# Altium integrated library TI_Logic_Flip-Flop,Latch,Register.IntLib: 2598 symbols (part 39 of 122)
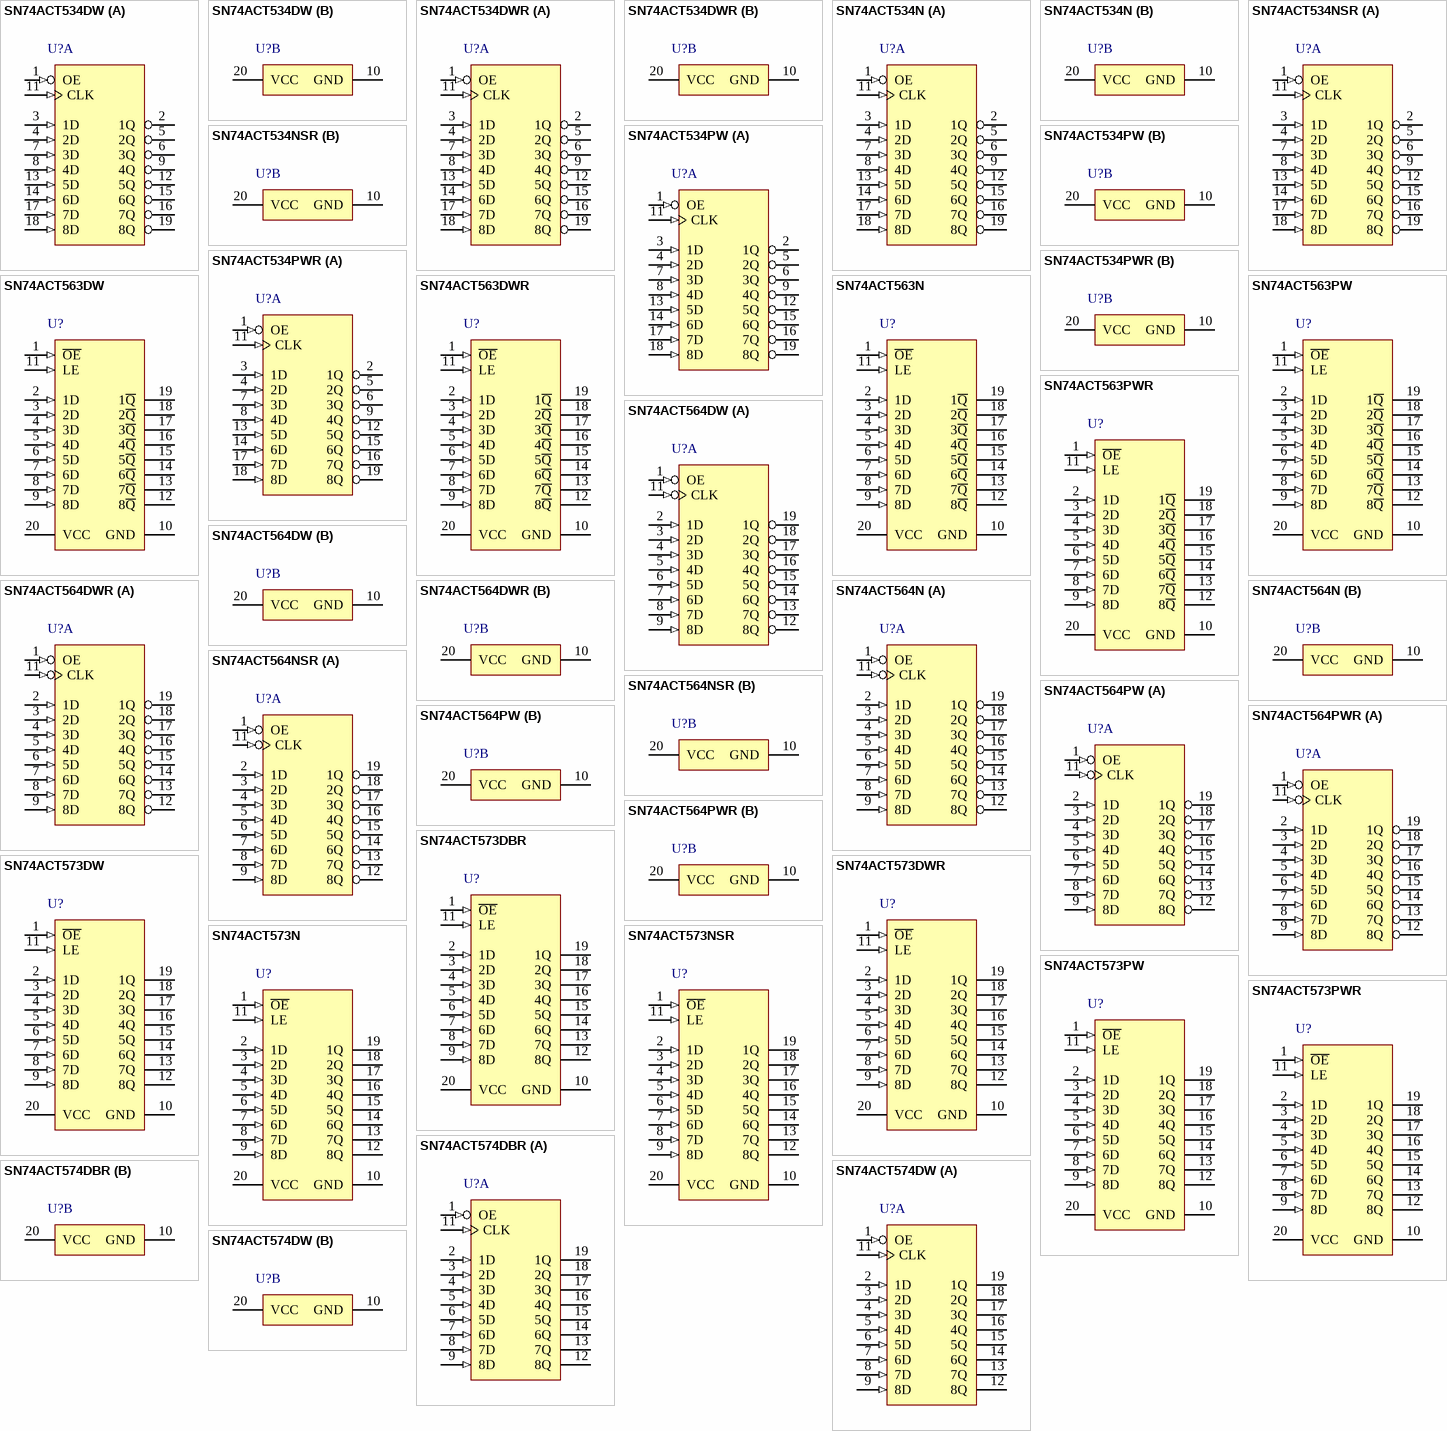
[diagram p177: symbols SN74ACT534DW to SN74ACT574DW]

## SN74ACT564NSR
designator U?
Octal D-Type Edge-Triggered Flip-Flops With 3-State Outputs, NS0020A, LARGE T&R; Generic Part Number: SN74ACT564; Manufacturer: Texas Instruments; PartNumber: SN74ACT564NSR; VCC(Min)(V): 4.5; VCC(Max)(V): 5.5; Output Type: CMOS; ICC @ Nom Voltage(Max)(mA): 0.04; Input Type: TTL; Bits(#): 8; F @ Nom Voltage(Max)(Mhz): 90; Rating: Catalog; Technology Family: ACT; Voltage(Nom)(V): 5; Schmitt Trigger: No; Output Drive (IOL/IOH)(Max)(mA): 24/-24; Output Logic: Inverted; 3-State Output: Yes; tpd @ Nom Voltage(Max)(ns): 11.5; DatasheetVersion: SCAS549B; PackageReference: NS0020A; Supplier 1: Digi-Key; Supplier Part Number 1: 296-31730-2-ND; Supplier 2: Digi-Key; Supplier Part Number 2: 296-31730-1-ND; Supplier 3: Digi-Key; Supplier Part Number 3: 296-31730-6-ND; Supplier 4: Mouser; Supplier Part Number 4: 595-SN74ACT564NSR; Operating Temperature Range(C): -40 to 85; ComponentLink1Description: Manufacturer URL; ComponentLink1URL: http://www.ti.com/; ComponentLink2Description: Datasheet; ComponentLink2URL: http://www.ti.com/lit/ds/symlink/sn74act564.pdf; ComponentLink3Description: Package Specification; ComponentLink3URL: http://www.ti.com/lit/ml/msop002a/msop002a.pdf
footprint NS0020A_N (SOIC,20-Leads,Body 12.9x5.6mm,Pitch 1.27mm,IPC Medium Density)
footprint NS0020A_M (SOIC,20-Leads,Body 12.9x5.6mm,Pitch 1.27mm,IPC Low Density)
footprint NS0020A_L (SOIC,20-Leads,Body 12.9x5.6mm,Pitch 1.27mm,IPC High Density)
part A pins: 1 OE (in), 2 1D (in), 3 2D (in), 4 3D (in), 5 4D (in), 6 5D (in), 7 6D (in), 8 7D (in), 9 8D (in), 11 CLK (in), 12 8Q (hiz), 13 7Q (hiz), 14 6Q (hiz), 15 5Q (hiz), 16 4Q (hiz), 17 3Q (hiz), 18 2Q (hiz), 19 1Q (hiz)
part B pins: 10 GND (power), 20 VCC (power)

## SN74ACT564PW
designator U?
Octal D-Type Edge-Triggered Flip-Flops With 3-State Outputs, PW0020A, TUBE; Generic Part Number: SN74ACT564; Manufacturer: Texas Instruments; PartNumber: SN74ACT564PW; VCC(Min)(V): 4.5; VCC(Max)(V): 5.5; Output Type: CMOS; ICC @ Nom Voltage(Max)(mA): 0.04; Input Type: TTL; Bits(#): 8; F @ Nom Voltage(Max)(Mhz): 90; Rating: Catalog; Technology Family: ACT; Voltage(Nom)(V): 5; Schmitt Trigger: No; Output Drive (IOL/IOH)(Max)(mA): 24/-24; Output Logic: Inverted; 3-State Output: Yes; tpd @ Nom Voltage(Max)(ns): 11.5; DatasheetVersion: SCAS549B; PackageReference: PW0020A; Supplier 1: Digi-Key; Supplier Part Number 1: SN74ACT564PW-ND; Supplier 2: Farnell; Supplier Part Number 2: 1749920; Supplier 3: Mouser; Supplier Part Number 3: 595-SN74ACT564PW; Operating Temperature Range(C): -40 to 85; Code_JEDEC: MO-153; ComponentLink1Description: Manufacturer URL; ComponentLink1URL: http://www.ti.com/; ComponentLink2Description: Datasheet; ComponentLink2URL: http://www.ti.com/lit/ds/symlink/sn74act564.pdf; ComponentLink3Description: Package Specification; ComponentLink3URL: http://www.ti.com/lit/ml/mpds362/mpds362.pdf
footprint PW0020A_N (SOP, 20-Leads, Body 6.6x4.5mm, Pitch 0.65mm, IPC Medium Density)
footprint PW0020A_M (SOP, 20-Leads, Body 6.6x4.5mm, Pitch 0.65mm, IPC Low Density)
footprint PW0020A_L (SOP, 20-Leads, Body 6.6x4.5mm, Pitch 0.65mm, IPC High Density)
part A pins: 1 OE (in), 2 1D (in), 3 2D (in), 4 3D (in), 5 4D (in), 6 5D (in), 7 6D (in), 8 7D (in), 9 8D (in), 11 CLK (in), 12 8Q (hiz), 13 7Q (hiz), 14 6Q (hiz), 15 5Q (hiz), 16 4Q (hiz), 17 3Q (hiz), 18 2Q (hiz), 19 1Q (hiz)
part B pins: 10 GND (power), 20 VCC (power)

## SN74ACT564PWR
designator U?
Octal D-Type Edge-Triggered Flip-Flops With 3-State Outputs, PW0020A, LARGE T&R; Generic Part Number: SN74ACT564; Manufacturer: Texas Instruments; PartNumber: SN74ACT564PWR; VCC(Min)(V): 4.5; VCC(Max)(V): 5.5; Output Type: CMOS; ICC @ Nom Voltage(Max)(mA): 0.04; Input Type: TTL; Bits(#): 8; F @ Nom Voltage(Max)(Mhz): 90; Rating: Catalog; Technology Family: ACT; Voltage(Nom)(V): 5; Schmitt Trigger: No; Output Drive (IOL/IOH)(Max)(mA): 24/-24; Output Logic: Inverted; 3-State Output: Yes; tpd @ Nom Voltage(Max)(ns): 11.5; DatasheetVersion: SCAS549B; PackageReference: PW0020A; Supplier 1: Digi-Key; Supplier Part Number 1: 296-4435-2-ND; Supplier 2: Digi-Key; Supplier Part Number 2: 296-4435-1-ND; Supplier 3: Digi-Key; Supplier Part Number 3: 296-4435-6-ND; Supplier 4: Mouser; Supplier Part Number 4: 595-SN74ACT564PWR; Operating Temperature Range(C): -40 to 85; Code_JEDEC: MO-153; ComponentLink1Description: Manufacturer URL; ComponentLink1URL: http://www.ti.com/; ComponentLink2Description: Datasheet; ComponentLink2URL: http://www.ti.com/lit/ds/symlink/sn74act564.pdf; ComponentLink3Description: Package Specification; ComponentLink3URL: http://www.ti.com/lit/ml/mpds362/mpds362.pdf
footprint PW0020A_N (SOP, 20-Leads, Body 6.6x4.5mm, Pitch 0.65mm, IPC Medium Density)
footprint PW0020A_M (SOP, 20-Leads, Body 6.6x4.5mm, Pitch 0.65mm, IPC Low Density)
footprint PW0020A_L (SOP, 20-Leads, Body 6.6x4.5mm, Pitch 0.65mm, IPC High Density)
part A pins: 1 OE (in), 2 1D (in), 3 2D (in), 4 3D (in), 5 4D (in), 6 5D (in), 7 6D (in), 8 7D (in), 9 8D (in), 11 CLK (in), 12 8Q (hiz), 13 7Q (hiz), 14 6Q (hiz), 15 5Q (hiz), 16 4Q (hiz), 17 3Q (hiz), 18 2Q (hiz), 19 1Q (hiz)
part B pins: 10 GND (power), 20 VCC (power)

## SN74ACT573DBR
designator U?
Octal D-Type Transparent Latches With 3-State Outputs, DB0020A, LARGE T&R; Generic Part Number: SN74ACT573; Manufacturer: Texas Instruments; PartNumber: SN74ACT573DBR; VCC(Min)(V): 4.5; VCC(Max)(V): 5.5; Output Type: CMOS; Logic: True; Static Current: 0.04; Input Type: TTL; Bits(#): 8; F @ Nom Voltage(Max)(Mhz): 90; Rating: Catalog; Technology Family: ACT; Voltage(Nom)(V): 5; Schmitt Trigger: No; Output Drive (IOL/IOH)(Max)(mA): 24/-24; Output Logic: Non-inverted; 3-State Output: Yes; tpd @ Nom Voltage(Max)(ns): 12; DatasheetVersion: SCAS538D; PackageReference: DB0020A; Supplier 1: Digi-Key; Supplier Part Number 1: 296-4436-2-ND; Supplier 2: Digi-Key; Supplier Part Number 2: 296-4436-1-ND; Supplier 3: Digi-Key; Supplier Part Number 3: 296-4436-6-ND; Supplier 4: Mouser; Supplier Part Number 4: 595-SN74ACT573DBR; ICC @ Nom Voltage(Max)(mA): 0.04; Operating Temperature Range(C): -40 to 85; Code_JEDEC: MO-150; ComponentLink1Description: Manufacturer URL; ComponentLink1URL: http://www.ti.com/; ComponentLink2Description: Datasheet; ComponentLink2URL: http://www.ti.com/lit/ds/symlink/sn74act573.pdf; ComponentLink3Description: Package Specification; ComponentLink3URL: http://www.ti.com/lit/ml/mpds508/mpds508.pdf
footprint DB0020A_N (SOP, 20-Leads, Body 5.6x7.5mm, Pitch 0.65mm, IPC Medium Density)
footprint DB0020A_M (SOP, 20-Leads, Body 5.6x7.5mm, Pitch 0.65mm, IPC Low Density)
footprint DB0020A_L (SOP, 20-Leads, Body 5.6x7.5mm, Pitch 0.65mm, IPC High Density)
pins: 1 ~{OE} (in), 2 1D (in), 3 2D (in), 4 3D (in), 5 4D (in), 6 5D (in), 7 6D (in), 8 7D (in), 9 8D (in), 10 GND (power), 11 LE (in), 12 8Q (hiz), 13 7Q (hiz), 14 6Q (hiz), 15 5Q (hiz), 16 4Q (hiz), 17 3Q (hiz), 18 2Q (hiz), 19 1Q (hiz), 20 VCC (power)

## SN74ACT573DW
designator U?
Octal D-Type Transparent Latches With 3-State Outputs, DW0020A, TUBE; Generic Part Number: SN74ACT573; Manufacturer: Texas Instruments; PartNumber: SN74ACT573DW; VCC(Min)(V): 4.5; VCC(Max)(V): 5.5; Output Type: CMOS; Logic: True; Static Current: 0.04; Input Type: TTL; Bits(#): 8; F @ Nom Voltage(Max)(Mhz): 90; Rating: Catalog; Technology Family: ACT; Voltage(Nom)(V): 5; Schmitt Trigger: No; Output Drive (IOL/IOH)(Max)(mA): 24/-24; Output Logic: Non-inverted; 3-State Output: Yes; tpd @ Nom Voltage(Max)(ns): 12; DatasheetVersion: SCAS538D; PackageReference: DW0020A; Supplier 1: Digi-Key; Supplier Part Number 1: 296-4437-5-ND; Supplier 2: Farnell; Supplier Part Number 2: 9590390; Supplier 3: Newark; Supplier Part Number 3: 35K0754; Supplier 4: Mouser; Supplier Part Number 4: 595-SN74ACT573DW; ICC @ Nom Voltage(Max)(mA): 0.04; Operating Temperature Range(C): -40 to 85; Code_JEDEC: MS-013; ComponentLink1Description: Manufacturer URL; ComponentLink1URL: http://www.ti.com/; ComponentLink2Description: Datasheet; ComponentLink2URL: http://www.ti.com/lit/ds/symlink/sn74act573.pdf; ComponentLink3Description: Package Specification; ComponentLink3URL: http://www.ti.com/lit/ml/mpds173a/mpds173a.pdf
footprint DW0020A_N (SOIC, 20-Leads, Body 13x7.6mm, Pitch 1.27mm, IPC Medium Density)
footprint DW0020A_M (SOIC, 20-Leads, Body 13x7.6mm, Pitch 1.27mm, IPC Low Density)
footprint DW0020A_L (SOIC, 20-Leads, Body 13x7.6mm, Pitch 1.27mm, IPC High Density)
pins: 1 ~{OE} (in), 2 1D (in), 3 2D (in), 4 3D (in), 5 4D (in), 6 5D (in), 7 6D (in), 8 7D (in), 9 8D (in), 10 GND (power), 11 LE (in), 12 8Q (hiz), 13 7Q (hiz), 14 6Q (hiz), 15 5Q (hiz), 16 4Q (hiz), 17 3Q (hiz), 18 2Q (hiz), 19 1Q (hiz), 20 VCC (power)

## SN74ACT573DWR
designator U?
Octal D-Type Transparent Latches With 3-State Outputs, DW0020A, LARGE T&R; Generic Part Number: SN74ACT573; Manufacturer: Texas Instruments; PartNumber: SN74ACT573DWR; VCC(Min)(V): 4.5; VCC(Max)(V): 5.5; Output Type: CMOS; Logic: True; Static Current: 0.04; Input Type: TTL; Bits(#): 8; F @ Nom Voltage(Max)(Mhz): 90; Rating: Catalog; Technology Family: ACT; Voltage(Nom)(V): 5; Schmitt Trigger: No; Output Drive (IOL/IOH)(Max)(mA): 24/-24; Output Logic: Non-inverted; 3-State Output: Yes; tpd @ Nom Voltage(Max)(ns): 12; DatasheetVersion: SCAS538D; PackageReference: DW0020A; Supplier 1: Digi-Key; Supplier Part Number 1: 296-26384-2-ND; Supplier 2: Digi-Key; Supplier Part Number 2: 296-26384-1-ND; Supplier 3: Digi-Key; Supplier Part Number 3: 296-26384-6-ND; Supplier 4: Farnell; Supplier Part Number 4: 2436791; Supplier 5: Mouser; Supplier Part Number 5: 595-SN74ACT573DWR; ICC @ Nom Voltage(Max)(mA): 0.04; Operating Temperature Range(C): -40 to 85; Code_JEDEC: MS-013; ComponentLink1Description: Manufacturer URL; ComponentLink1URL: http://www.ti.com/; ComponentLink2Description: Datasheet; ComponentLink2URL: http://www.ti.com/lit/ds/symlink/sn74act573.pdf; ComponentLink3Description: Package Specification; ComponentLink3URL: http://www.ti.com/lit/ml/mpds173a/mpds173a.pdf
footprint DW0020A_N (SOIC, 20-Leads, Body 13x7.6mm, Pitch 1.27mm, IPC Medium Density)
footprint DW0020A_M (SOIC, 20-Leads, Body 13x7.6mm, Pitch 1.27mm, IPC Low Density)
footprint DW0020A_L (SOIC, 20-Leads, Body 13x7.6mm, Pitch 1.27mm, IPC High Density)
pins: 1 ~{OE} (in), 2 1D (in), 3 2D (in), 4 3D (in), 5 4D (in), 6 5D (in), 7 6D (in), 8 7D (in), 9 8D (in), 10 GND (power), 11 LE (in), 12 8Q (hiz), 13 7Q (hiz), 14 6Q (hiz), 15 5Q (hiz), 16 4Q (hiz), 17 3Q (hiz), 18 2Q (hiz), 19 1Q (hiz), 20 VCC (power)

## SN74ACT573N
designator U?
Octal D-Type Transparent Latches With 3-State Outputs, N0020A, TUBE; Generic Part Number: SN74ACT573; Manufacturer: Texas Instruments; PartNumber: SN74ACT573N; VCC(Min)(V): 4.5; VCC(Max)(V): 5.5; Output Type: CMOS; Logic: True; Static Current: 0.04; Input Type: TTL; Bits(#): 8; F @ Nom Voltage(Max)(Mhz): 90; Rating: Catalog; Technology Family: ACT; Voltage(Nom)(V): 5; Schmitt Trigger: No; Output Drive (IOL/IOH)(Max)(mA): 24/-24; Output Logic: Non-inverted; 3-State Output: Yes; tpd @ Nom Voltage(Max)(ns): 12; DatasheetVersion: SCAS538D; PackageReference: N0020A; Supplier 1: Digi-Key; Supplier Part Number 1: 296-4438-5-ND; Supplier 2: Newark; Supplier Part Number 2: 67K0995; Supplier 3: Mouser; Supplier Part Number 3: 595-SN74ACT573N; ICC @ Nom Voltage(Max)(mA): 0.04; Operating Temperature Range(C): -40 to 85; Code_JEDEC: MS-001; ComponentLink1Description: Manufacturer URL; ComponentLink1URL: http://www.ti.com/; ComponentLink2Description: Datasheet; ComponentLink2URL: http://www.ti.com/lit/ds/symlink/sn74act573.pdf; ComponentLink3Description: Package Specification; ComponentLink3URL: http://www.ti.com/lit/ml/mpdi002c/mpdi002c.pdf
footprint N0020A (DIP, 20-Leads, Body 26.9x6.6mm, Pitch 2.54mm)
pins: 1 ~{OE} (in), 2 1D (in), 3 2D (in), 4 3D (in), 5 4D (in), 6 5D (in), 7 6D (in), 8 7D (in), 9 8D (in), 10 GND (power), 11 LE (in), 12 8Q (hiz), 13 7Q (hiz), 14 6Q (hiz), 15 5Q (hiz), 16 4Q (hiz), 17 3Q (hiz), 18 2Q (hiz), 19 1Q (hiz), 20 VCC (power)

## SN74ACT573NSR
designator U?
Octal D-Type Transparent Latches With 3-State Outputs, NS0020A, LARGE T&R; Generic Part Number: SN74ACT573; Manufacturer: Texas Instruments; PartNumber: SN74ACT573NSR; VCC(Min)(V): 4.5; VCC(Max)(V): 5.5; Output Type: CMOS; Logic: True; Static Current: 0.04; Input Type: TTL; Bits(#): 8; F @ Nom Voltage(Max)(Mhz): 90; Rating: Catalog; Technology Family: ACT; Voltage(Nom)(V): 5; Schmitt Trigger: No; Output Drive (IOL/IOH)(Max)(mA): 24/-24; Output Logic: Non-inverted; 3-State Output: Yes; tpd @ Nom Voltage(Max)(ns): 12; DatasheetVersion: SCAS538D; PackageReference: NS0020A; Supplier 1: Digi-Key; Supplier Part Number 1: 296-28650-2-ND; Supplier 2: Digi-Key; Supplier Part Number 2: 296-28650-1-ND; Supplier 3: Digi-Key; Supplier Part Number 3: 296-28650-6-ND; Supplier 4: Mouser; Supplier Part Number 4: 595-SN74ACT573NSR; ICC @ Nom Voltage(Max)(mA): 0.04; Operating Temperature Range(C): -40 to 85; ComponentLink1Description: Manufacturer URL; ComponentLink1URL: http://www.ti.com/; ComponentLink2Description: Datasheet; ComponentLink2URL: http://www.ti.com/lit/ds/symlink/sn74act573.pdf; ComponentLink3Description: Package Specification; ComponentLink3URL: http://www.ti.com/lit/ml/msop002a/msop002a.pdf
footprint NS0020A_N (SOIC,20-Leads,Body 12.9x5.6mm,Pitch 1.27mm,IPC Medium Density)
footprint NS0020A_M (SOIC,20-Leads,Body 12.9x5.6mm,Pitch 1.27mm,IPC Low Density)
footprint NS0020A_L (SOIC,20-Leads,Body 12.9x5.6mm,Pitch 1.27mm,IPC High Density)
pins: 1 ~{OE} (in), 2 1D (in), 3 2D (in), 4 3D (in), 5 4D (in), 6 5D (in), 7 6D (in), 8 7D (in), 9 8D (in), 10 GND (power), 11 LE (in), 12 8Q (hiz), 13 7Q (hiz), 14 6Q (hiz), 15 5Q (hiz), 16 4Q (hiz), 17 3Q (hiz), 18 2Q (hiz), 19 1Q (hiz), 20 VCC (power)

## SN74ACT573PW
designator U?
Octal D-Type Transparent Latches With 3-State Outputs, PW0020A, TUBE; Generic Part Number: SN74ACT573; Manufacturer: Texas Instruments; PartNumber: SN74ACT573PW; VCC(Min)(V): 4.5; VCC(Max)(V): 5.5; Output Type: CMOS; Logic: True; Static Current: 0.04; Input Type: TTL; Bits(#): 8; F @ Nom Voltage(Max)(Mhz): 90; Rating: Catalog; Technology Family: ACT; Voltage(Nom)(V): 5; Schmitt Trigger: No; Output Drive (IOL/IOH)(Max)(mA): 24/-24; Output Logic: Non-inverted; 3-State Output: Yes; tpd @ Nom Voltage(Max)(ns): 12; DatasheetVersion: SCAS538D; PackageReference: PW0020A; Supplier 1: Digi-Key; Supplier Part Number 1: 296-33661-5-ND; Supplier 2: Farnell; Supplier Part Number 2: 9590404; Supplier 3: Newark; Supplier Part Number 3: 98K0228; Supplier 4: Mouser; Supplier Part Number 4: 595-SN74ACT573PW; ICC @ Nom Voltage(Max)(mA): 0.04; Operating Temperature Range(C): -40 to 85; Code_JEDEC: MO-153; ComponentLink1Description: Manufacturer URL; ComponentLink1URL: http://www.ti.com/; ComponentLink2Description: Datasheet; ComponentLink2URL: http://www.ti.com/lit/ds/symlink/sn74act573.pdf; ComponentLink3Description: Package Specification; ComponentLink3URL: http://www.ti.com/lit/ml/mpds362/mpds362.pdf
footprint PW0020A_N (SOP, 20-Leads, Body 6.6x4.5mm, Pitch 0.65mm, IPC Medium Density)
footprint PW0020A_M (SOP, 20-Leads, Body 6.6x4.5mm, Pitch 0.65mm, IPC Low Density)
footprint PW0020A_L (SOP, 20-Leads, Body 6.6x4.5mm, Pitch 0.65mm, IPC High Density)
pins: 1 ~{OE} (in), 2 1D (in), 3 2D (in), 4 3D (in), 5 4D (in), 6 5D (in), 7 6D (in), 8 7D (in), 9 8D (in), 10 GND (power), 11 LE (in), 12 8Q (hiz), 13 7Q (hiz), 14 6Q (hiz), 15 5Q (hiz), 16 4Q (hiz), 17 3Q (hiz), 18 2Q (hiz), 19 1Q (hiz), 20 VCC (power)

## SN74ACT573PWR
designator U?
Octal D-Type Transparent Latches With 3-State Outputs, PW0020A, LARGE T&R; Generic Part Number: SN74ACT573; Manufacturer: Texas Instruments; PartNumber: SN74ACT573PWR; VCC(Min)(V): 4.5; VCC(Max)(V): 5.5; Output Type: CMOS; Logic: True; Static Current: 0.04; Input Type: TTL; Bits(#): 8; F @ Nom Voltage(Max)(Mhz): 90; Rating: Catalog; Technology Family: ACT; Voltage(Nom)(V): 5; Schmitt Trigger: No; Output Drive (IOL/IOH)(Max)(mA): 24/-24; Output Logic: Non-inverted; 3-State Output: Yes; tpd @ Nom Voltage(Max)(ns): 12; DatasheetVersion: SCAS538D; PackageReference: PW0020A; Supplier 1: Digi-Key; Supplier Part Number 1: 296-4439-2-ND; Supplier 2: Digi-Key; Supplier Part Number 2: 296-4439-1-ND; Supplier 3: Digi-Key; Supplier Part Number 3: 296-4439-6-ND; Supplier 4: Farnell; Supplier Part Number 4: 2436792; Supplier 5: Newark; Supplier Part Number 5: 76C1288; Supplier 6: Mouser; Supplier Part Number 6: 595-SN74ACT573PWR; ICC @ Nom Voltage(Max)(mA): 0.04; Operating Temperature Range(C): -40 to 85; Code_JEDEC: MO-153; ComponentLink1Description: Manufacturer URL; ComponentLink1URL: http://www.ti.com/; ComponentLink2Description: Datasheet; ComponentLink2URL: http://www.ti.com/lit/ds/symlink/sn74act573.pdf; ComponentLink3Description: Package Specification; ComponentLink3URL: http://www.ti.com/lit/ml/mpds362/mpds362.pdf
footprint PW0020A_N (SOP, 20-Leads, Body 6.6x4.5mm, Pitch 0.65mm, IPC Medium Density)
footprint PW0020A_M (SOP, 20-Leads, Body 6.6x4.5mm, Pitch 0.65mm, IPC Low Density)
footprint PW0020A_L (SOP, 20-Leads, Body 6.6x4.5mm, Pitch 0.65mm, IPC High Density)
pins: 1 ~{OE} (in), 2 1D (in), 3 2D (in), 4 3D (in), 5 4D (in), 6 5D (in), 7 6D (in), 8 7D (in), 9 8D (in), 10 GND (power), 11 LE (in), 12 8Q (hiz), 13 7Q (hiz), 14 6Q (hiz), 15 5Q (hiz), 16 4Q (hiz), 17 3Q (hiz), 18 2Q (hiz), 19 1Q (hiz), 20 VCC (power)

## SN74ACT574DBR
designator U?
Octal D-Type Edge-Triggered Flip-Flops with 3-State Outputs, DB0020A, LARGE T&R; Generic Part Number: SN74ACT574; Manufacturer: Texas Instruments; PartNumber: SN74ACT574DBR; VCC(Min)(V): 4.5; VCC(Max)(V): 5.5; Output Type: CMOS; ICC @ Nom Voltage(Max)(mA): 0.04; Input Type: TTL; Bits(#): 8; F @ Nom Voltage(Max)(Mhz): 90; Rating: Catalog; Technology Family: ACT; Voltage(Nom)(V): 5; Schmitt Trigger: No; Output Drive (IOL/IOH)(Max)(mA): 24/-24; Output Logic: Non-inverted; 3-State Output: Yes; tpd @ Nom Voltage(Max)(ns): 12; DatasheetVersion: SCAS537D; PackageReference: DB0020A; Supplier 1: Digi-Key; Supplier Part Number 1: 296-4440-2-ND; Supplier 2: Digi-Key; Supplier Part Number 2: 296-4440-1-ND; Supplier 3: Digi-Key; Supplier Part Number 3: 296-4440-6-ND; Supplier 4: Newark; Supplier Part Number 4: 76C1289; Supplier 5: Mouser; Supplier Part Number 5: 595-SN74ACT574DBR; Operating Temperature Range(C): -40 to 85; Code_JEDEC: MO-150; ComponentLink1Description: Manufacturer URL; ComponentLink1URL: http://www.ti.com/; ComponentLink2Description: Datasheet; ComponentLink2URL: http://www.ti.com/lit/ds/symlink/sn74act574.pdf; ComponentLink3Description: Package Specification; ComponentLink3URL: http://www.ti.com/lit/ml/mpds508/mpds508.pdf
footprint DB0020A_N (SOP, 20-Leads, Body 5.6x7.5mm, Pitch 0.65mm, IPC Medium Density)
footprint DB0020A_M (SOP, 20-Leads, Body 5.6x7.5mm, Pitch 0.65mm, IPC Low Density)
footprint DB0020A_L (SOP, 20-Leads, Body 5.6x7.5mm, Pitch 0.65mm, IPC High Density)
part A pins: 1 OE (in), 2 1D (in), 3 2D (in), 4 3D (in), 5 4D (in), 6 5D (in), 7 6D (in), 8 7D (in), 9 8D (in), 11 CLK (in), 12 8Q (hiz), 13 7Q (hiz), 14 6Q (hiz), 15 5Q (hiz), 16 4Q (hiz), 17 3Q (hiz), 18 2Q (hiz), 19 1Q (hiz)
part B pins: 10 GND (power), 20 VCC (power)

## SN74ACT574DW
designator U?
Octal D-Type Edge-Triggered Flip-Flops with 3-State Outputs, DW0020A, TUBE; Generic Part Number: SN74ACT574; Manufacturer: Texas Instruments; PartNumber: SN74ACT574DW; VCC(Min)(V): 4.5; VCC(Max)(V): 5.5; Output Type: CMOS; ICC @ Nom Voltage(Max)(mA): 0.04; Input Type: TTL; Bits(#): 8; F @ Nom Voltage(Max)(Mhz): 90; Rating: Catalog; Technology Family: ACT; Voltage(Nom)(V): 5; Schmitt Trigger: No; Output Drive (IOL/IOH)(Max)(mA): 24/-24; Output Logic: Non-inverted; 3-State Output: Yes; tpd @ Nom Voltage(Max)(ns): 12; DatasheetVersion: SCAS537D; PackageReference: DW0020A; Supplier 1: Digi-Key; Supplier Part Number 1: 296-4441-5-ND; Supplier 2: Farnell; Supplier Part Number 2: 9590412; Supplier 3: Newark; Supplier Part Number 3: 72C4597; Supplier 4: Mouser; Supplier Part Number 4: 595-SN74ACT574DW; Operating Temperature Range(C): -40 to 85; Code_JEDEC: MS-013; ComponentLink1Description: Manufacturer URL; ComponentLink1URL: http://www.ti.com/; ComponentLink2Description: Datasheet; ComponentLink2URL: http://www.ti.com/lit/ds/symlink/sn74act574.pdf; ComponentLink3Description: Package Specification; ComponentLink3URL: http://www.ti.com/lit/ml/mpds173a/mpds173a.pdf
footprint DW0020A_N (SOIC, 20-Leads, Body 13x7.6mm, Pitch 1.27mm, IPC Medium Density)
footprint DW0020A_M (SOIC, 20-Leads, Body 13x7.6mm, Pitch 1.27mm, IPC Low Density)
footprint DW0020A_L (SOIC, 20-Leads, Body 13x7.6mm, Pitch 1.27mm, IPC High Density)
part A pins: 1 OE (in), 2 1D (in), 3 2D (in), 4 3D (in), 5 4D (in), 6 5D (in), 7 6D (in), 8 7D (in), 9 8D (in), 11 CLK (in), 12 8Q (hiz), 13 7Q (hiz), 14 6Q (hiz), 15 5Q (hiz), 16 4Q (hiz), 17 3Q (hiz), 18 2Q (hiz), 19 1Q (hiz)
part B pins: 10 GND (power), 20 VCC (power)

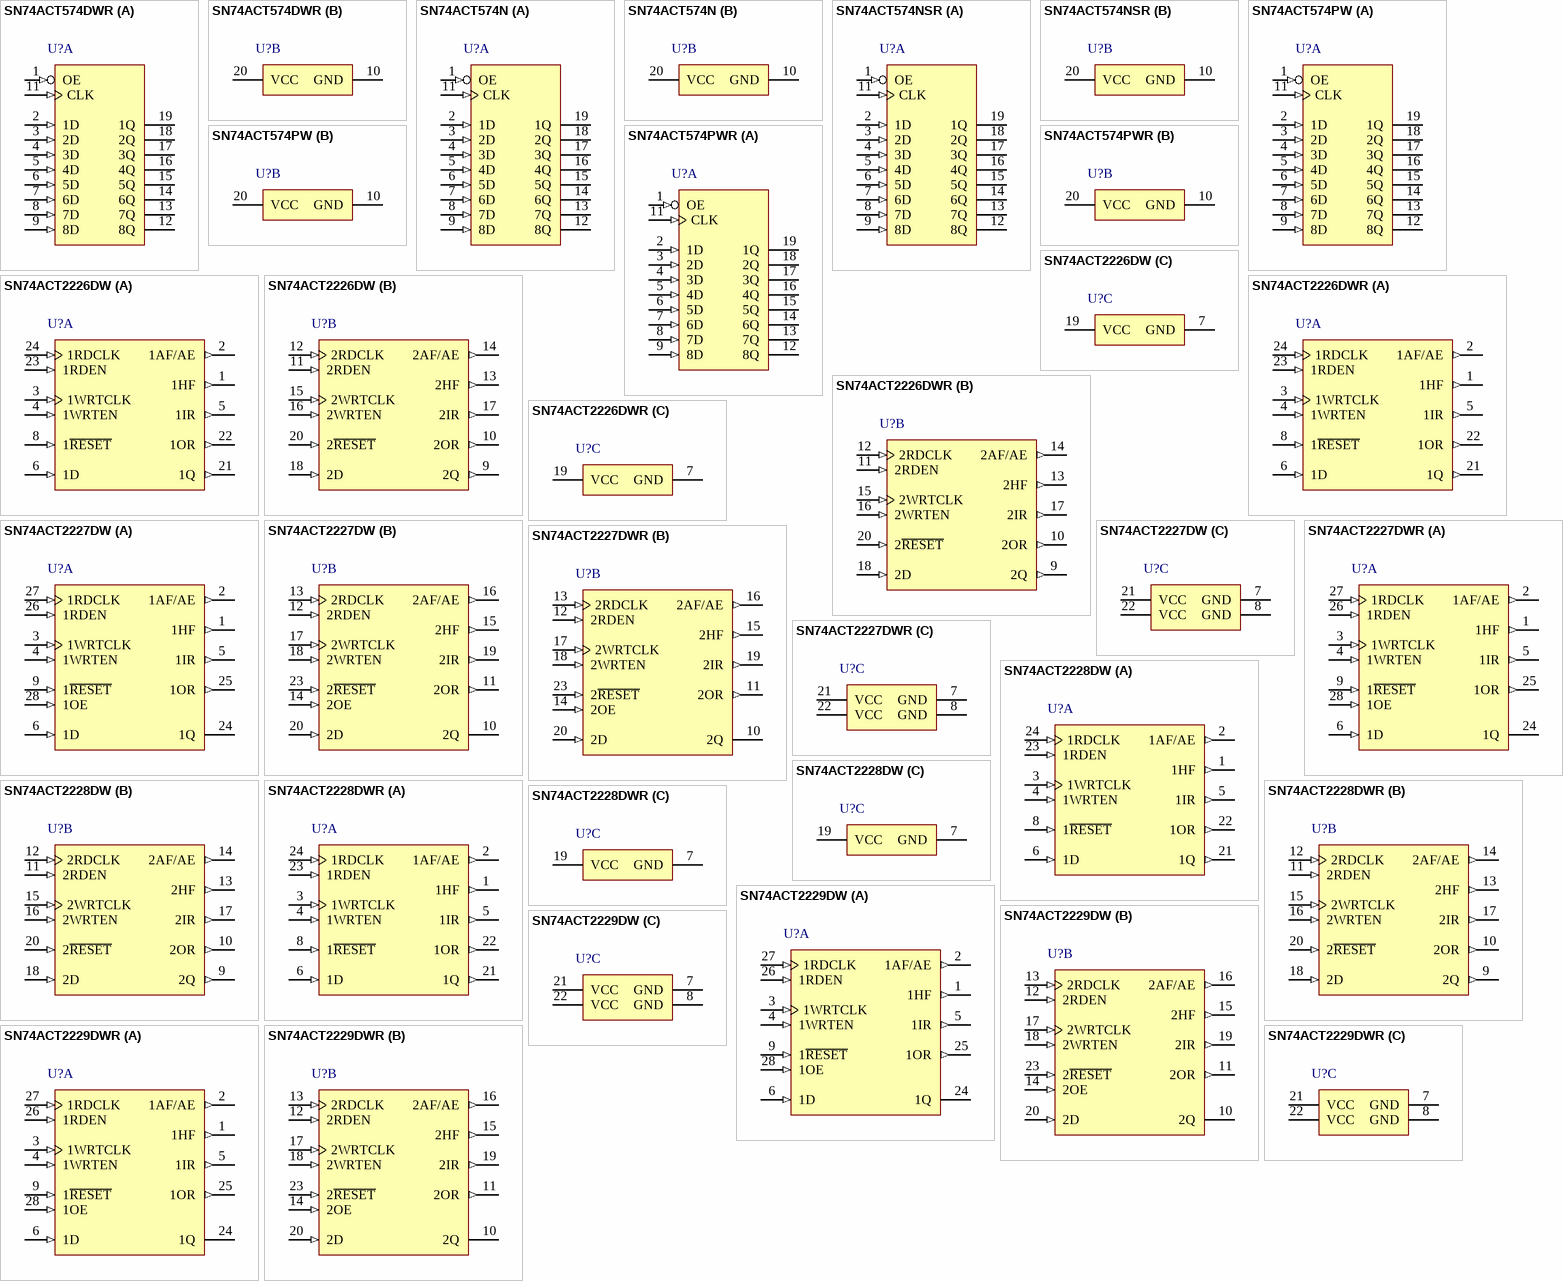
[diagram p52: symbols SN74ACT574DWR to SN74ACT2229DWR]

## SN74ACT574DWR
designator U?
Octal D-Type Edge-Triggered Flip-Flops with 3-State Outputs, DW0020A, LARGE T&R; Generic Part Number: SN74ACT574; Manufacturer: Texas Instruments; PartNumber: SN74ACT574DWR; VCC(Min)(V): 4.5; VCC(Max)(V): 5.5; Output Type: CMOS; ICC @ Nom Voltage(Max)(mA): 0.04; Input Type: TTL; Bits(#): 8; F @ Nom Voltage(Max)(Mhz): 90; Rating: Catalog; Technology Family: ACT; Voltage(Nom)(V): 5; Schmitt Trigger: No; Output Drive (IOL/IOH)(Max)(mA): 24/-24; Output Logic: Non-inverted; 3-State Output: Yes; tpd @ Nom Voltage(Max)(ns): 12; DatasheetVersion: SCAS537D; PackageReference: DW0020A; Supplier 1: Digi-Key; Supplier Part Number 1: 296-26385-2-ND; Supplier 2: Digi-Key; Supplier Part Number 2: 296-26385-1-ND; Supplier 3: Digi-Key; Supplier Part Number 3: 296-26385-6-ND; Supplier 4: Farnell; Supplier Part Number 4: 2436793; Supplier 5: Newark; Supplier Part Number 5: 76C1290; Supplier 6: Mouser; Supplier Part Number 6: 595-SN74ACT574DWR; Operating Temperature Range(C): -40 to 85; Code_JEDEC: MS-013; ComponentLink1Description: Manufacturer URL; ComponentLink1URL: http://www.ti.com/; ComponentLink2Description: Datasheet; ComponentLink2URL: http://www.ti.com/lit/ds/symlink/sn74act574.pdf; ComponentLink3Description: Package Specification; ComponentLink3URL: http://www.ti.com/lit/ml/mpds173a/mpds173a.pdf
footprint DW0020A_N (SOIC, 20-Leads, Body 13x7.6mm, Pitch 1.27mm, IPC Medium Density)
footprint DW0020A_M (SOIC, 20-Leads, Body 13x7.6mm, Pitch 1.27mm, IPC Low Density)
footprint DW0020A_L (SOIC, 20-Leads, Body 13x7.6mm, Pitch 1.27mm, IPC High Density)
part A pins: 1 OE (in), 2 1D (in), 3 2D (in), 4 3D (in), 5 4D (in), 6 5D (in), 7 6D (in), 8 7D (in), 9 8D (in), 11 CLK (in), 12 8Q (hiz), 13 7Q (hiz), 14 6Q (hiz), 15 5Q (hiz), 16 4Q (hiz), 17 3Q (hiz), 18 2Q (hiz), 19 1Q (hiz)
part B pins: 10 GND (power), 20 VCC (power)

## SN74ACT574N
designator U?
Octal D-Type Edge-Triggered Flip-Flops with 3-State Outputs, N0020A, TUBE; Generic Part Number: SN74ACT574; Manufacturer: Texas Instruments; PartNumber: SN74ACT574N; VCC(Min)(V): 4.5; VCC(Max)(V): 5.5; Output Type: CMOS; ICC @ Nom Voltage(Max)(mA): 0.04; Input Type: TTL; Bits(#): 8; F @ Nom Voltage(Max)(Mhz): 90; Rating: Catalog; Technology Family: ACT; Voltage(Nom)(V): 5; Schmitt Trigger: No; Output Drive (IOL/IOH)(Max)(mA): 24/-24; Output Logic: Non-inverted; 3-State Output: Yes; tpd @ Nom Voltage(Max)(ns): 12; DatasheetVersion: SCAS537D; PackageReference: N0020A; Supplier 1: Digi-Key; Supplier Part Number 1: 296-4442-5-ND; Supplier 2: Farnell; Supplier Part Number 2: 1739868; Supplier 3: Newark; Supplier Part Number 3: 67K0996; Supplier 4: Mouser; Supplier Part Number 4: 595-SN74ACT574N; Operating Temperature Range(C): -40 to 85; Code_JEDEC: MS-001; ComponentLink1Description: Manufacturer URL; ComponentLink1URL: http://www.ti.com/; ComponentLink2Description: Datasheet; ComponentLink2URL: http://www.ti.com/lit/ds/symlink/sn74act574.pdf; ComponentLink3Description: Package Specification; ComponentLink3URL: http://www.ti.com/lit/ml/mpdi002c/mpdi002c.pdf
footprint N0020A (DIP, 20-Leads, Body 26.9x6.6mm, Pitch 2.54mm)
part A pins: 1 OE (in), 2 1D (in), 3 2D (in), 4 3D (in), 5 4D (in), 6 5D (in), 7 6D (in), 8 7D (in), 9 8D (in), 11 CLK (in), 12 8Q (hiz), 13 7Q (hiz), 14 6Q (hiz), 15 5Q (hiz), 16 4Q (hiz), 17 3Q (hiz), 18 2Q (hiz), 19 1Q (hiz)
part B pins: 10 GND (power), 20 VCC (power)

## SN74ACT574NSR
designator U?
Octal D-Type Edge-Triggered Flip-Flops with 3-State Outputs, NS0020A, LARGE T&R; Generic Part Number: SN74ACT574; Manufacturer: Texas Instruments; PartNumber: SN74ACT574NSR; VCC(Min)(V): 4.5; VCC(Max)(V): 5.5; Output Type: CMOS; ICC @ Nom Voltage(Max)(mA): 0.04; Input Type: TTL; Bits(#): 8; F @ Nom Voltage(Max)(Mhz): 90; Rating: Catalog; Technology Family: ACT; Voltage(Nom)(V): 5; Schmitt Trigger: No; Output Drive (IOL/IOH)(Max)(mA): 24/-24; Output Logic: Non-inverted; 3-State Output: Yes; tpd @ Nom Voltage(Max)(ns): 12; DatasheetVersion: SCAS537D; PackageReference: NS0020A; Supplier 1: Digi-Key; Supplier Part Number 1: 296-29121-2-ND; Supplier 2: Digi-Key; Supplier Part Number 2: 296-29121-1-ND; Supplier 3: Digi-Key; Supplier Part Number 3: 296-29121-6-ND; Supplier 4: Mouser; Supplier Part Number 4: 595-SN74ACT574NSR; Operating Temperature Range(C): -40 to 85; ComponentLink1Description: Manufacturer URL; ComponentLink1URL: http://www.ti.com/; ComponentLink2Description: Datasheet; ComponentLink2URL: http://www.ti.com/lit/ds/symlink/sn74act574.pdf; ComponentLink3Description: Package Specification; ComponentLink3URL: http://www.ti.com/lit/ml/msop002a/msop002a.pdf
footprint NS0020A_N (SOIC,20-Leads,Body 12.9x5.6mm,Pitch 1.27mm,IPC Medium Density)
footprint NS0020A_M (SOIC,20-Leads,Body 12.9x5.6mm,Pitch 1.27mm,IPC Low Density)
footprint NS0020A_L (SOIC,20-Leads,Body 12.9x5.6mm,Pitch 1.27mm,IPC High Density)
part A pins: 1 OE (in), 2 1D (in), 3 2D (in), 4 3D (in), 5 4D (in), 6 5D (in), 7 6D (in), 8 7D (in), 9 8D (in), 11 CLK (in), 12 8Q (hiz), 13 7Q (hiz), 14 6Q (hiz), 15 5Q (hiz), 16 4Q (hiz), 17 3Q (hiz), 18 2Q (hiz), 19 1Q (hiz)
part B pins: 10 GND (power), 20 VCC (power)

## SN74ACT574PW
designator U?
Octal D-Type Edge-Triggered Flip-Flops with 3-State Outputs, PW0020A, TUBE; Generic Part Number: SN74ACT574; Manufacturer: Texas Instruments; PartNumber: SN74ACT574PW; VCC(Min)(V): 4.5; VCC(Max)(V): 5.5; Output Type: CMOS; ICC @ Nom Voltage(Max)(mA): 0.04; Input Type: TTL; Bits(#): 8; F @ Nom Voltage(Max)(Mhz): 90; Rating: Catalog; Technology Family: ACT; Voltage(Nom)(V): 5; Schmitt Trigger: No; Output Drive (IOL/IOH)(Max)(mA): 24/-24; Output Logic: Non-inverted; 3-State Output: Yes; tpd @ Nom Voltage(Max)(ns): 12; DatasheetVersion: SCAS537D; PackageReference: PW0020A; Supplier 1: Digi-Key; Supplier Part Number 1: 296-33662-5-ND; Supplier 2: Farnell; Supplier Part Number 2: 1741102; Supplier 3: Newark; Supplier Part Number 3: 50R5832; Supplier 4: Mouser; Supplier Part Number 4: 595-SN74ACT574PW; Operating Temperature Range(C): -40 to 85; Code_JEDEC: MO-153; ComponentLink1Description: Manufacturer URL; ComponentLink1URL: http://www.ti.com/; ComponentLink2Description: Datasheet; ComponentLink2URL: http://www.ti.com/lit/ds/symlink/sn74act574.pdf; ComponentLink3Description: Package Specification; ComponentLink3URL: http://www.ti.com/lit/ml/mpds362/mpds362.pdf
footprint PW0020A_N (SOP, 20-Leads, Body 6.6x4.5mm, Pitch 0.65mm, IPC Medium Density)
footprint PW0020A_M (SOP, 20-Leads, Body 6.6x4.5mm, Pitch 0.65mm, IPC Low Density)
footprint PW0020A_L (SOP, 20-Leads, Body 6.6x4.5mm, Pitch 0.65mm, IPC High Density)
part A pins: 1 OE (in), 2 1D (in), 3 2D (in), 4 3D (in), 5 4D (in), 6 5D (in), 7 6D (in), 8 7D (in), 9 8D (in), 11 CLK (in), 12 8Q (hiz), 13 7Q (hiz), 14 6Q (hiz), 15 5Q (hiz), 16 4Q (hiz), 17 3Q (hiz), 18 2Q (hiz), 19 1Q (hiz)
part B pins: 10 GND (power), 20 VCC (power)

## SN74ACT574PWR
designator U?
Octal D-Type Edge-Triggered Flip-Flops with 3-State Outputs, PW0020A, LARGE T&R; Generic Part Number: SN74ACT574; Manufacturer: Texas Instruments; PartNumber: SN74ACT574PWR; VCC(Min)(V): 4.5; VCC(Max)(V): 5.5; Output Type: CMOS; ICC @ Nom Voltage(Max)(mA): 0.04; Input Type: TTL; Bits(#): 8; F @ Nom Voltage(Max)(Mhz): 90; Rating: Catalog; Technology Family: ACT; Voltage(Nom)(V): 5; Schmitt Trigger: No; Output Drive (IOL/IOH)(Max)(mA): 24/-24; Output Logic: Non-inverted; 3-State Output: Yes; tpd @ Nom Voltage(Max)(ns): 12; DatasheetVersion: SCAS537D; PackageReference: PW0020A; Supplier 1: Digi-Key; Supplier Part Number 1: 296-1078-2-ND; Supplier 2: Digi-Key; Supplier Part Number 2: 296-1078-1-ND; Supplier 3: Digi-Key; Supplier Part Number 3: 296-1078-6-ND; Supplier 4: Farnell; Supplier Part Number 4: 2436794; Supplier 5: Farnell; Supplier Part Number 5: 2114052; Supplier 6: Newark; Supplier Part Number 6: 35K0755; Supplier 7: Mouser; Supplier Part Number 7: 595-SN74ACT574PWR; Operating Temperature Range(C): -40 to 85; Code_JEDEC: MO-153; ComponentLink1Description: Manufacturer URL; ComponentLink1URL: http://www.ti.com/; ComponentLink2Description: Datasheet; ComponentLink2URL: http://www.ti.com/lit/ds/symlink/sn74act574.pdf; ComponentLink3Description: Package Specification; ComponentLink3URL: http://www.ti.com/lit/ml/mpds362/mpds362.pdf
footprint PW0020A_N (SOP, 20-Leads, Body 6.6x4.5mm, Pitch 0.65mm, IPC Medium Density)
footprint PW0020A_M (SOP, 20-Leads, Body 6.6x4.5mm, Pitch 0.65mm, IPC Low Density)
footprint PW0020A_L (SOP, 20-Leads, Body 6.6x4.5mm, Pitch 0.65mm, IPC High Density)
part A pins: 1 OE (in), 2 1D (in), 3 2D (in), 4 3D (in), 5 4D (in), 6 5D (in), 7 6D (in), 8 7D (in), 9 8D (in), 11 CLK (in), 12 8Q (hiz), 13 7Q (hiz), 14 6Q (hiz), 15 5Q (hiz), 16 4Q (hiz), 17 3Q (hiz), 18 2Q (hiz), 19 1Q (hiz)
part B pins: 10 GND (power), 20 VCC (power)

## SN74ACT2226DW
designator U?
64 x 1 x 2 dual independent synchronous FIFO memories, DW0024A, TUBE; Generic Part Number: SN74ACT2226; Manufacturer: Texas Instruments; PartNumber: SN74ACT2226DW; Vcc range(V): 4.5 to 5.5; Fmax(MHz): 22; Voltage Nodes(V): 5; Sync/Async: S; Rating: Catalog; Output Drive(mA): -0.5; Flags Empty: YES; DatasheetVersion: SCAS219C; PackageReference: DW0024A; Depth: 64; Width: 1; Operating Temperature Range(C): -40 to 85; Flags Full: YES; Flags Half: YES; Code_JEDEC: MS-013; ComponentLink1Description: Manufacturer URL; ComponentLink1URL: http://www.ti.com/; ComponentLink2Description: Datasheet; ComponentLink2URL: http://www.ti.com/lit/ds/symlink/sn74act2226.pdf; ComponentLink3Description: Package Specification; ComponentLink3URL: http://www.ti.com/lit/ml/mpds174a/mpds174a.pdf
footprint DW0024A_N (SOIC, 24-Leads, Body 15.6x7.6mm, Pitch 1.27mm, IPC Medium Density)
footprint DW0024A_M (SOIC, 24-Leads, Body 15.6x7.6mm, Pitch 1.27mm, IPC Low Density)
footprint DW0024A_L (SOIC, 24-Leads, Body 15.6x7.6mm, Pitch 1.27mm, IPC High Density)
part A pins: 1 1HF (out) "Half-full flag. HF is high when the number of bits stored in memory is greater than or equal to half the FIFO depth. HF is set low after reset.", 2 1AF/AE (out) "Almost-full/almost-empty flag. AF/AE is high when the memory is eight locations or less from a full or empty state. AF/AE is set high after reset.", 3 1WRTCLK (in) "Write clock. WRTCLK is a continuous clock and can be independent of any other clock on the device. A low-to-high transition of WRTCLK writes data to memory when WRTEN and IR are high. IR is synchronous with the low-to-high (See Datasheet)", 4 1WRTEN (in) "Write enable. When WRTEN and IR are high, data is written to the FIFO on a low-to-high transition of WRTCLK.", 5 1IR (out) "Input-ready flag. IR is synchronized to the low-to-high transition of WRTCLK. When IR is low, the FIFO is full and writes are disabled. IR is set low during reset and is set high on the second low-to-high transition of (See Datasheet)", 6 1D (in) "Data input", 8 1~{RESET} (in) "Reset. To reset the FIFO, four low-to-high transitions of RDCLK and four low-to-high transitions of WRTCLK must occur while R\E\S\E\T\ is low. This sets HF, IR, and OR low and AF/AE high. Before it is used, a FIFO must be (See Datasheet)", 21 1Q (out) "Data outputs. After the first valid write to empty memory, the first bit is output on the third rising edge of RDCLK. OR for the FIFO is asserted high to indicate ready data.", 22 1OR (out) "Output-ready flag. OR is synchronized to the low-to-high transition of RDCLK. When OR is low, the FIFO is empty and reads are disabled. Ready data is present on the data output when OR is high. OR is set low during reset and (See Datasheet)", 23 1RDEN (in) "Read enable. When the RDEN and OR of a FIFO are high, data is read from the FIFO on the low-to-high transition of RDCLK.", 24 1RDCLK (in) "Read clock. RDCLK is a continuous clock and can be independent of any other clock on the device. A low-to-high transition of RDCLK reads data from memory when the FIFO RDEN and OR are high. OR is synchronous with the (See Datasheet)"
part B pins: 9 2Q (out) "Data outputs. After the first valid write to empty memory, the first bit is output on the third rising edge of RDCLK. OR for the FIFO is asserted high to indicate ready data.", 10 2OR (out) "Output-ready flag. OR is synchronized to the low-to-high transition of RDCLK. When OR is low, the FIFO is empty and reads are disabled. Ready data is present on the data output when OR is high. OR is set low during reset and (See Datasheet)", 11 2RDEN (in) "Read enable. When the RDEN and OR of a FIFO are high, data is read from the FIFO on the low-to-high transition of RDCLK.", 12 2RDCLK (in) "Read clock. RDCLK is a continuous clock and can be independent of any other clock on the device. A low-to-high transition of RDCLK reads data from memory when the FIFO RDEN and OR are high. OR is synchronous with the (See Datasheet)", 13 2HF (out) "Half-full flag. HF is high when the number of bits stored in memory is greater than or equal to half the FIFO depth. HF is set low after reset.", 14 2AF/AE (out) "Almost-full/almost-empty flag. AF/AE is high when the memory is eight locations or less from a full or empty state. AF/AE is set high after reset.", 15 2WRTCLK (in) "Write clock. WRTCLK is a continuous clock and can be independent of any other clock on the device. A low-to-high transition of WRTCLK writes data to memory when WRTEN and IR are high. IR is synchronous with the low-to-high (See Datasheet)", 16 2WRTEN (in) "Write enable. When WRTEN and IR are high, data is written to the FIFO on a low-to-high transition of WRTCLK.", 17 2IR (out) "Input-ready flag. IR is synchronized to the low-to-high transition of WRTCLK. When IR is low, the FIFO is full and writes are disabled. IR is set low during reset and is set high on the second low-to-high transition of (See Datasheet)", 18 2D (in) "Data input", 20 2~{RESET} (in) "Reset. To reset the FIFO, four low-to-high transitions of RDCLK and four low-to-high transitions of WRTCLK must occur while R\E\S\E\T\ is low. This sets HF, IR, and OR low and AF/AE high. Before it is used, a FIFO must be (See Datasheet)"
part C pins: 7 GND (power) "Ground", 19 VCC (power) "Supply voltage"

## SN74ACT2226DWR
designator U?
64 x 1 x 2 dual independent synchronous FIFO memories, DW0024A, LARGE T&R; Generic Part Number: SN74ACT2226; Manufacturer: Texas Instruments; PartNumber: SN74ACT2226DWR; Vcc range(V): 4.5 to 5.5; Fmax(MHz): 22; Voltage Nodes(V): 5; Sync/Async: S; Rating: Catalog; Output Drive(mA): -0.5; Flags Empty: YES; DatasheetVersion: SCAS219C; PackageReference: DW0024A; Depth: 64; Width: 1; Operating Temperature Range(C): -40 to 85; Flags Full: YES; Flags Half: YES; Code_JEDEC: MS-013; ComponentLink1Description: Manufacturer URL; ComponentLink1URL: http://www.ti.com/; ComponentLink2Description: Datasheet; ComponentLink2URL: http://www.ti.com/lit/ds/symlink/sn74act2226.pdf; ComponentLink3Description: Package Specification; ComponentLink3URL: http://www.ti.com/lit/ml/mpds174a/mpds174a.pdf
footprint DW0024A_N (SOIC, 24-Leads, Body 15.6x7.6mm, Pitch 1.27mm, IPC Medium Density)
footprint DW0024A_M (SOIC, 24-Leads, Body 15.6x7.6mm, Pitch 1.27mm, IPC Low Density)
footprint DW0024A_L (SOIC, 24-Leads, Body 15.6x7.6mm, Pitch 1.27mm, IPC High Density)
part A pins: 1 1HF (out) "Half-full flag. HF is high when the number of bits stored in memory is greater than or equal to half the FIFO depth. HF is set low after reset.", 2 1AF/AE (out) "Almost-full/almost-empty flag. AF/AE is high when the memory is eight locations or less from a full or empty state. AF/AE is set high after reset.", 3 1WRTCLK (in) "Write clock. WRTCLK is a continuous clock and can be independent of any other clock on the device. A low-to-high transition of WRTCLK writes data to memory when WRTEN and IR are high. IR is synchronous with the low-to-high (See Datasheet)", 4 1WRTEN (in) "Write enable. When WRTEN and IR are high, data is written to the FIFO on a low-to-high transition of WRTCLK.", 5 1IR (out) "Input-ready flag. IR is synchronized to the low-to-high transition of WRTCLK. When IR is low, the FIFO is full and writes are disabled. IR is set low during reset and is set high on the second low-to-high transition of (See Datasheet)", 6 1D (in) "Data input", 8 1~{RESET} (in) "Reset. To reset the FIFO, four low-to-high transitions of RDCLK and four low-to-high transitions of WRTCLK must occur while R\E\S\E\T\ is low. This sets HF, IR, and OR low and AF/AE high. Before it is used, a FIFO must be (See Datasheet)", 21 1Q (out) "Data outputs. After the first valid write to empty memory, the first bit is output on the third rising edge of RDCLK. OR for the FIFO is asserted high to indicate ready data.", 22 1OR (out) "Output-ready flag. OR is synchronized to the low-to-high transition of RDCLK. When OR is low, the FIFO is empty and reads are disabled. Ready data is present on the data output when OR is high. OR is set low during reset and (See Datasheet)", 23 1RDEN (in) "Read enable. When the RDEN and OR of a FIFO are high, data is read from the FIFO on the low-to-high transition of RDCLK.", 24 1RDCLK (in) "Read clock. RDCLK is a continuous clock and can be independent of any other clock on the device. A low-to-high transition of RDCLK reads data from memory when the FIFO RDEN and OR are high. OR is synchronous with the (See Datasheet)"
part B pins: 9 2Q (out) "Data outputs. After the first valid write to empty memory, the first bit is output on the third rising edge of RDCLK. OR for the FIFO is asserted high to indicate ready data.", 10 2OR (out) "Output-ready flag. OR is synchronized to the low-to-high transition of RDCLK. When OR is low, the FIFO is empty and reads are disabled. Ready data is present on the data output when OR is high. OR is set low during reset and (See Datasheet)", 11 2RDEN (in) "Read enable. When the RDEN and OR of a FIFO are high, data is read from the FIFO on the low-to-high transition of RDCLK.", 12 2RDCLK (in) "Read clock. RDCLK is a continuous clock and can be independent of any other clock on the device. A low-to-high transition of RDCLK reads data from memory when the FIFO RDEN and OR are high. OR is synchronous with the (See Datasheet)", 13 2HF (out) "Half-full flag. HF is high when the number of bits stored in memory is greater than or equal to half the FIFO depth. HF is set low after reset.", 14 2AF/AE (out) "Almost-full/almost-empty flag. AF/AE is high when the memory is eight locations or less from a full or empty state. AF/AE is set high after reset.", 15 2WRTCLK (in) "Write clock. WRTCLK is a continuous clock and can be independent of any other clock on the device. A low-to-high transition of WRTCLK writes data to memory when WRTEN and IR are high. IR is synchronous with the low-to-high (See Datasheet)", 16 2WRTEN (in) "Write enable. When WRTEN and IR are high, data is written to the FIFO on a low-to-high transition of WRTCLK.", 17 2IR (out) "Input-ready flag. IR is synchronized to the low-to-high transition of WRTCLK. When IR is low, the FIFO is full and writes are disabled. IR is set low during reset and is set high on the second low-to-high transition of (See Datasheet)", 18 2D (in) "Data input", 20 2~{RESET} (in) "Reset. To reset the FIFO, four low-to-high transitions of RDCLK and four low-to-high transitions of WRTCLK must occur while R\E\S\E\T\ is low. This sets HF, IR, and OR low and AF/AE high. Before it is used, a FIFO must be (See Datasheet)"
part C pins: 7 GND (power) "Ground", 19 VCC (power) "Supply voltage"

## SN74ACT2227DW
designator U?
64 x 1 x 2 dual independent synchronous FIFO memories, DW0028A, TUBE; Generic Part Number: SN74ACT2227; Manufacturer: Texas Instruments; PartNumber: SN74ACT2227DW; Vcc range(V): 4.5 to 5.5; Fmax(MHz): 60; Voltage Nodes(V): 5; Sync/Async: S; Rating: Catalog; Output Drive(mA): -0.5; Flags Empty: YES; DatasheetVersion: SCAS220C; PackageReference: DW0028A; Depth: 64; Width: 1; Operating Temperature Range(C): -40 to 85; Flags Full: YES; Flags Half: YES; Code_JEDEC: MS-013; ComponentLink1Description: Manufacturer URL; ComponentLink1URL: http://www.ti.com/; ComponentLink2Description: Datasheet; ComponentLink2URL: http://www.ti.com/lit/ds/symlink/sn74act2227.pdf; ComponentLink3Description: Package Specification; ComponentLink3URL: http://www.ti.com/lit/ml/mpds175a/mpds175a.pdf
footprint DW0028A_N (SOIC, 28-Leads, Body 18.1x7.6mm, Pitch 1.27mm, IPC Medium Density)
footprint DW0028A_M (SOIC, 28-Leads, Body 18.1x7.6mm, Pitch 1.27mm, IPC Low Density)
footprint DW0028A_L (SOIC, 28-Leads, Body 18.1x7.6mm, Pitch 1.27mm, IPC High Density)
part A pins: 1 1HF (out) "Half-full flag. HF is high when the number of bits stored in memory is greater than or equal to half the FIFO depth. HF is set low after reset.", 2 1AF/AE (out) "Almost-full/almost-empty flag. AF/AE is high when the memory is eight locations or fewer from a full or empty state. AF/AE is set high after reset.", 3 1WRTCLK (in) "Write clock. WRTCLK is a continuous clock and can be independent of any other clock on the device. A low-to-high transition of WRTCLK writes data to memory when WRTEN and IR are high. IR is synchronous with the low-to-high (See Datasheet)", 4 1WRTEN (in) "Write enable. When WRTEN and IR are high, data is written to the FIFO on a low-to-high transition of WRTCLK.", 5 1IR (out) "Input-ready flag. IR is synchronized to the low-to-high transition of WRTCLK. When IR is low, the FIFO is full and writes are disabled. IR is set low during reset and is set high on the second low-to-high transition of (See Datasheet)", 6 1D (in) "Data input", 9 1~{RESET} (in) "Reset. To reset the FIFO, four low-to-high transitions of RDCLK and four low-to-high transitions of WRTCLK must occur while R\E\S\E\T\ is low. This sets HF, IR, and OR low and AF/AE high. Before it is used, a FIFO must be (See Datasheet)", 24 1Q (hiz) "Data outputs. After the first valid write to empty memory, the first bit is output on the third rising edge of RDCLK. OR for the FIFO is asserted high to indicate ready data.", 25 1OR (out) "Output-ready flag. OR is synchronized to the low-to-high transition of RDCLK. When OR is low, the FIFO is empty and reads are disabled. Ready data is present on the data output when OR is high. OR is set low during reset and (See Datasheet)", 26 1RDEN (in) "Read enable. When the RDEN and OR of a FIFO are high, data is read from the FIFO on the low-to-high transition of RDCLK.", 27 1RDCLK (in) "Read clock. RDCLK is a continuous clock and can be independent of any other clock on the device. A low-to-high transition of RDCLK reads data from memory when the FIFO RDEN and OR are high. OR is synchronous with the (See Datasheet)", 28 1OE (in) "Output enable. The data output of a FIFO is active when OE is high and in the high-impedance state when OE is low."
part B pins: 10 2Q (hiz) "Data outputs. After the first valid write to empty memory, the first bit is output on the third rising edge of RDCLK. OR for the FIFO is asserted high to indicate ready data.", 11 2OR (out) "Output-ready flag. OR is synchronized to the low-to-high transition of RDCLK. When OR is low, the FIFO is empty and reads are disabled. Ready data is present on the data output when OR is high. OR is set low during reset and (See Datasheet)", 12 2RDEN (in) "Read enable. When the RDEN and OR of a FIFO are high, data is read from the FIFO on the low-to-high transition of RDCLK.", 13 2RDCLK (in) "Read clock. RDCLK is a continuous clock and can be independent of any other clock on the device. A low-to-high transition of RDCLK reads data from memory when the FIFO RDEN and OR are high. OR is synchronous with the (See Datasheet)", 14 2OE (in) "Output enable. The data output of a FIFO is active when OE is high and in the high-impedance state when OE is low.", 15 2HF (out) "Half-full flag. HF is high when the number of bits stored in memory is greater than or equal to half the FIFO depth. HF is set low after reset.", 16 2AF/AE (out) "Almost-full/almost-empty flag. AF/AE is high when the memory is eight locations or fewer from a full or empty state. AF/AE is set high after reset.", 17 2WRTCLK (in) "Write clock. WRTCLK is a continuous clock and can be independent of any other clock on the device. A low-to-high transition of WRTCLK writes data to memory when WRTEN and IR are high. IR is synchronous with the low-to-high (See Datasheet)", 18 2WRTEN (in) "Write enable. When WRTEN and IR are high, data is written to the FIFO on a low-to-high transition of WRTCLK.", 19 2IR (out) "Input-ready flag. IR is synchronized to the low-to-high transition of WRTCLK. When IR is low, the FIFO is full and writes are disabled. IR is set low during reset and is set high on the second low-to-high transition of (See Datasheet)", 20 2D (in) "Data input", 23 2~{RESET} (in) "Reset. To reset the FIFO, four low-to-high transitions of RDCLK and four low-to-high transitions of WRTCLK must occur while R\E\S\E\T\ is low. This sets HF, IR, and OR low and AF/AE high. Before it is used, a FIFO must be (See Datasheet)"
part C pins: 7 GND (power) "Ground", 8 GND (power) "Ground", 21 VCC (power) "Supply voltage", 22 VCC (power) "Supply voltage"